# Altium footprint library RNF14FTD13K0.PcbLib: 1 footprints
Each footprint in its own frame and in the unit in brackets; x right, y up, seen from the top. Pads: shape width x height; smd on the part's side, far side on the other; paste and mask are expansions set on the pad; w line width, h text height; cw(c..) or ccw(c..) is an arc to the next point about the centre after c.
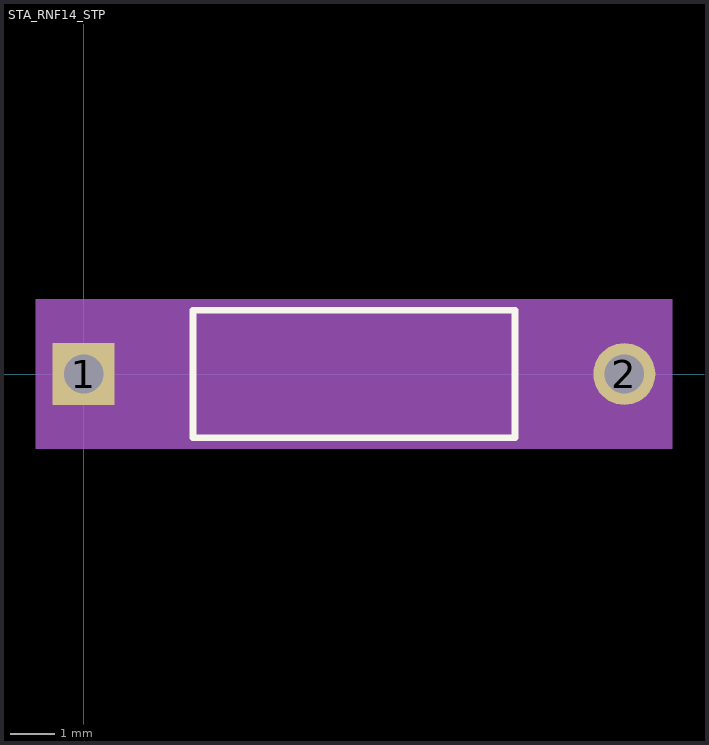
[diagram p0: the footprint, top view; thin cyan lines are the x and y axes]

## STA_RNF14_STP [mil]
pads (2):
  rect 55x55 hole 35 mask+0: 1(0,0)
  round 55 hole 35 mask+0: 2(480,0)
Top Overlay:
  lines w6: 97,-56.5 383,-56.5 383,56.5 97,56.5 97,-56.5
Mechanical 5:
  region: 522.5,-66.5 -42.5,-66.5 -42.5,66.5 522.5,66.5
Mechanical 13:
  lines w1: 0,0 102,0 ; 378,0 480,0 ; 102,-51.5 378,-51.5 378,51.5 102,51.5 102,-51.5
Mechanical 15:
  region: 92,-37.5 -37.5,-37.5 -37.5,37.5 92,37.5 92,61.5 388,61.5 388,37.5 517.5,37.5 517.5,-37.5 388,-37.5 388,-61.5 92,-61.5
  lines w6: -37.5,-37.5 -37.5,37.5 92,37.5 92,61.5 388,61.5 388,37.5 517.5,37.5 517.5,-37.5 388,-37.5 388,-61.5 92,-61.5 92,-37.5 -37.5,-37.5
3D body "STA_RNF14_STP.step": height 102.59, standoff -110, extent -12.48,-51.4 492.52,51.4